# Altium schematic symbol library SCH - MCU - ATSAM - MICROCHIP SAMD11C14A-SSU SOIC14.SchLib: 1 symbol
Pins are listed as number, name and electrical type; pins without a type are passive.

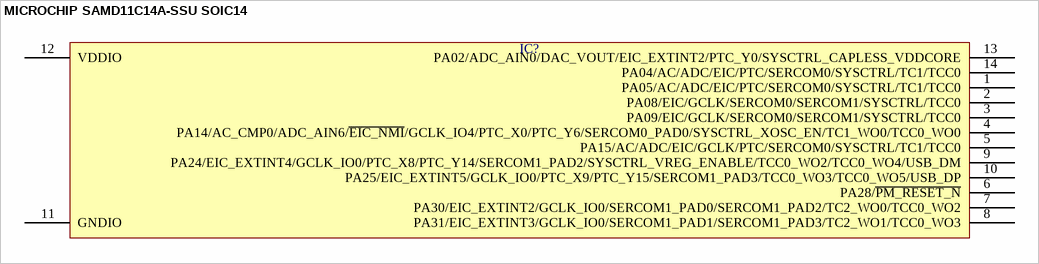
[diagram p0: symbol MICROCHIP SAMD11C14A-SSU SOIC14]

## MICROCHIP SAMD11C14A-SSU SOIC14
designator IC?  (value not drawn)
pins: 1 PA05/AC/ADC/EIC/PTC/SERCOM0/SYSCTRL/TC1/TCC0, 2 PA08/EIC/GCLK/SERCOM0/SERCOM1/SYSCTRL/TCC0, 3 PA09/EIC/GCLK/SERCOM0/SERCOM1/SYSCTRL/TCC0, 4 PA14/AC_CMP0/ADC_AIN6/~{EIC_NMI}/GCLK_IO4/PTC_X0/PTC_Y6/SERCOM0_PAD0/SYSCTRL_XOSC_EN/TC1_WO0/TCC0_WO0, 5 PA15/AC/ADC/EIC/GCLK/PTC/SERCOM0/SYSCTRL/TC1/TCC0, 6 PA28/~{PM_RESET_N}, 7 PA30/EIC_EXTINT2/GCLK_IO0/SERCOM1_PAD0/SERCOM1_PAD2/TC2_WO0/TCC0_WO2, 8 PA31/EIC_EXTINT3/GCLK_IO0/SERCOM1_PAD1/SERCOM1_PAD3/TC2_WO1/TCC0_WO3, 9 PA24/EIC_EXTINT4/GCLK_IO0/PTC_X8/PTC_Y14/SERCOM1_PAD2/SYSCTRL_VREG_ENABLE/TCC0_WO2/TCC0_WO4/USB_DM, 10 PA25/EIC_EXTINT5/GCLK_IO0/PTC_X9/PTC_Y15/SERCOM1_PAD3/TCC0_WO3/TCC0_WO5/USB_DP, 11 GNDIO, 12 VDDIO, 13 PA02/ADC_AIN0/DAC_VOUT/EIC_EXTINT2/PTC_Y0/SYSCTRL_CAPLESS_VDDCORE, 14 PA04/AC/ADC/EIC/PTC/SERCOM0/SYSCTRL/TC1/TCC0